# Altium schematic symbol library TPS54361DPRT.SchLib: 1 symbol
Pins are listed as number, name and electrical type; pins without a type are passive.

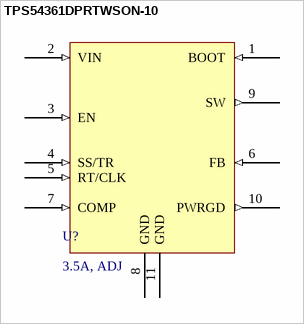
[diagram p0: symbol TPS54361DPRTWSON-10]

## TPS54361DPRTWSON-10
designator U?, comment 3.5A, ADJ
Switching Voltage Regulators, 800 mV to 59 V output; Manufacturer: Texas Instruments; Manufacturer SN: TPS54361DPRT; Number of Outputs: 1; Output Voltage: 0.8-59 V; Voltage Input Maximum: 60V; Voltage Input Minimum: 4.5V; Mounting Style: SMD/SMT; Package / Case: WSON-10; Output Current: 3.5 A; ComponentLink1Description: Datasheet link; ComponentLink1URL: https://www.ti.com/general/docs/suppproductinfo.tsp?distId=10&gotoUrl=https%3A%2F%2Fwww.ti.com%2Flit%2Fgpn%2Ftps54361; ComponentLink2Description: Supplier 1 URL; ComponentLink2URL: https://www.mouser.vn/ProductDetail/Texas-Instruments/TPS54361DPRT?qs=wrT8kFYR778NnxU7eySXLw%3D%3D; ComponentLink3Description: Supplier 2 URL; ComponentLink3URL: https://www.digikey.com/en/products/detail/texas-instruments/TPS54361DPRT/4695367?s=N4IgTCBcDaICoAUDKBWALAZgGwEYAiCASnCALoC%2BQA; ComponentLink4Description: Supplier 3 URL; ComponentLink4URL: N/A; Supplier 1 Name: Mouser; Supplier 1 SN: 595-TPS54361DPRT; Supplier 1 URL: https://www.mouser.vn/ProductDetail/Texas-Instruments/TPS54361DPRT?qs=wrT8kFYR778NnxU7eySXLw%3D%3D; Supplier 2 Name: Digi-Key; Supplier 2 SN: 296-37248-2-ND; Supplier 2 URL: https://www.digikey.com/en/products/detail/texas-instruments/TPS54361DPRT/4695367?s=N4IgTCBcDaICoAUDKBWALAZgGwEYAiCASnCALoC%2BQA; Supplier 3 Name: thegioiic; Supplier 3 SN: N/A; Supplier 3 URL: N/A; Value: 3.5A, ADJ; Voltage Output: 0.8-59 V
footprint TPS54361DPRT
pins: 1 BOOT (in), 2 VIN (in), 3 EN (in), 4 SS/TR  (in), 5 RT/CLK  (in), 6 FB (in), 7 COMP (in), 8 GND (power), 9 SW (out), 10 PWRGD (out), 11 GND (power)